# EAGLE library part KSZ8775CLXIC (library library)
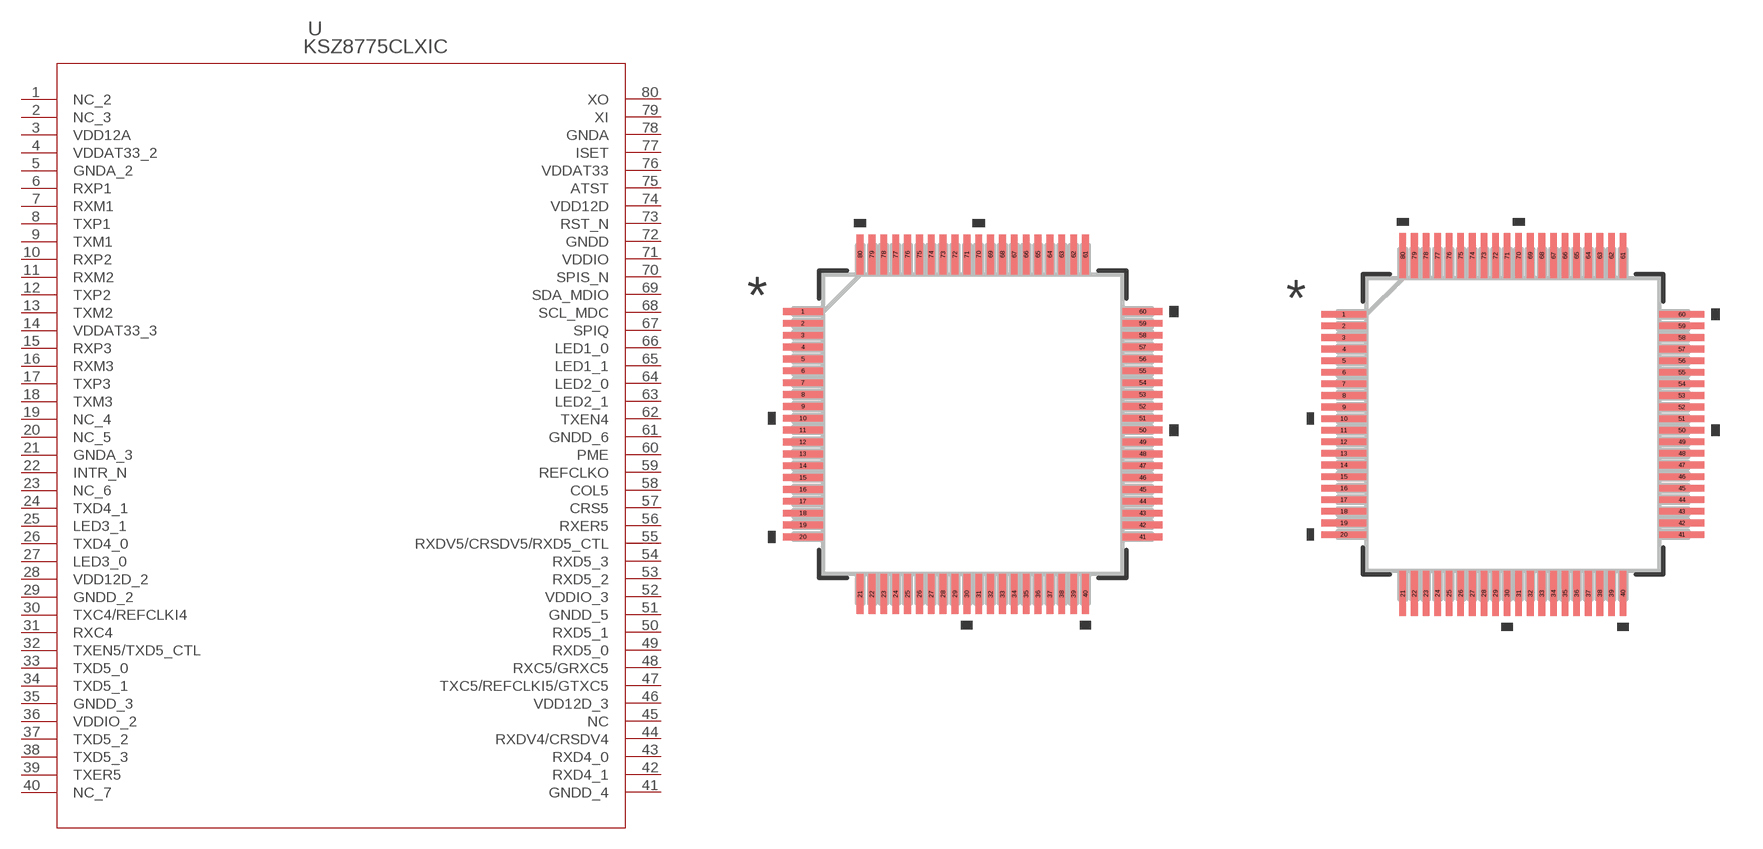
[diagram p0: symbol with the pads of LQFP10X10_80LD-PL-1_MCH; footprints LQFP10X10_80LD-PL-1_MCH, LQFP10X10_80LD-PL-1_MCH-M]

Designator prefix U

## KSZ8775CLXIC (BUILT_BY: EMA_Cory; COPYRIGHT: Copyright (C) 2018 Accelerated Designs. All rights reserved; DATASHEET: https://ww1.microchip.com/downloads/en/DeviceDoc/00002129C.pdf; MANUFACTURER_PART_NUMBER: KSZ8775CLXIC; SOURCELIBRARY: Add_to_database_2020-12-23; VENDOR: Microchip)  [LQFP10X10_80LD-PL-1_MCH]
1  NC_2  nc
2  NC_3  nc
3  VDD12A  pwr
4  VDDAT33_2  pwr
5  GNDA_2  pas
6  RXP1  in
7  RXM1  in
8  TXP1  out
9  TXM1  out
10  RXP2  in
11  RXM2  in
12  TXP2  out
13  TXM2  out
14  VDDAT33_3  pwr
15  RXP3  in
16  RXM3  in
17  TXP3  out
18  TXM3  out
19  NC_4  nc
20  NC_5  nc
21  GNDA_3  pas
22  INTR_N  out
23  NC_6  nc
24  TXD4_1  in
25  LED3_1
26  TXD4_0  in
27  LED3_0
28  VDD12D_2  pwr
29  GNDD_2  pas
30  TXC4/REFCLKI4
31  RXC4
32  TXEN5/TXD5_CTL  in
33  TXD5_0  in
34  TXD5_1  in
35  GNDD_3  pas
36  VDDIO_2  pwr
37  TXD5_2  in
38  TXD5_3  in
39  TXER5  in
40  NC_7  nc
41  GNDD_4  pas
42  RXD4_1
43  RXD4_0
44  RXDV4/CRSDV4
45  NC  nc
46  VDD12D_3  pwr
47  TXC5/REFCLKI5/GTXC5
48  RXC5/GRXC5
49  RXD5_0
50  RXD5_1
51  GNDD_5  pas
52  VDDIO_3  pwr
53  RXD5_2
54  RXD5_3
55  RXDV5/CRSDV5/RXD5_CTL
56  RXER5
57  CRS5
58  COL5
59  REFCLKO
60  PME
61  GNDD_6  pas
62  TXEN4  in
63  LED2_1
64  LED2_0
65  LED1_1
66  LED1_0
67  SPIQ
68  SCL_MDC  in
69  SDA_MDIO
70  SPIS_N  in
71  VDDIO  pwr
72  GNDD  pas
73  RST_N  in
74  VDD12D  pwr
75  ATST  nc
76  VDDAT33  pwr
77  ISET  pas
78  GNDA  pas
79  XI  in
80  XO  out

## KSZ8775CLXICLQFP10X10_80LD-PL-1_MCH-M (BUILT_BY: EMA_Cory; COPYRIGHT: Copyright (C) 2018 Accelerated Designs. All rights reserved; DATASHEET: https://ww1.microchip.com/downloads/en/DeviceDoc/00002129C.pdf; MANUFACTURER_PART_NUMBER: KSZ8775CLXIC; SOURCELIBRARY: Add_to_database_2020-12-23; VENDOR: Microchip)  [LQFP10X10_80LD-PL-1_MCH-M]
Pads as for LQFP10X10_80LD-PL-1_MCH

## KSZ8775CLXICLQFP10X10_80LD-PL-1_MCH-L (BUILT_BY: EMA_Cory; COPYRIGHT: Copyright (C) 2018 Accelerated Designs. All rights reserved; DATASHEET: https://ww1.microchip.com/downloads/en/DeviceDoc/00002129C.pdf; MANUFACTURER_PART_NUMBER: KSZ8775CLXIC; SOURCELIBRARY: Add_to_database_2020-12-23; VENDOR: Microchip)  [LQFP10X10_80LD-PL-1_MCH-L]
Pads as for LQFP10X10_80LD-PL-1_MCH

## Footprint LQFP10X10_80LD-PL-1_MCH (pad centres in mm)
smd 1.346 x 0.229: 1 -5.728,3.8; 2 -5.728,3.4; 3 -5.728,3; 4 -5.728,2.6; 5 -5.728,2.2; 6 -5.728,1.8; 7 -5.728,1.4; 8 -5.728,1; 9 -5.728,0.6; 10 -5.728,0.2; 11 -5.728,-0.2; 12 -5.728,-0.6; 13 -5.728,-1; 14 -5.728,-1.4; 15 -5.728,-1.8; 16 -5.728,-2.2; 17 -5.728,-2.6; 18 -5.728,-3; 19 -5.728,-3.4; 20 -5.728,-3.8; 41 5.728,-3.8; 42 5.728,-3.4; 43 5.728,-3; 44 5.728,-2.6; 45 5.728,-2.2; 46 5.728,-1.8; 47 5.728,-1.4; 48 5.728,-1; 49 5.728,-0.6; 50 5.728,-0.2; 51 5.728,0.2; 52 5.728,0.6; 53 5.728,1; 54 5.728,1.4; 55 5.728,1.8; 56 5.728,2.2; 57 5.728,2.6; 58 5.728,3; 59 5.728,3.4; 60 5.728,3.8
smd 0.229 x 1.346: 21 -3.8,-5.728; 22 -3.4,-5.728; 23 -3,-5.728; 24 -2.6,-5.728; 25 -2.2,-5.728; 26 -1.8,-5.728; 27 -1.4,-5.728; 28 -1,-5.728; 29 -0.6,-5.728; 30 -0.2,-5.728; 31 0.2,-5.728; 32 0.6,-5.728; 33 1,-5.728; 34 1.4,-5.728; 35 1.8,-5.728; 36 2.2,-5.728; 37 2.6,-5.728; 38 3,-5.728; 39 3.4,-5.728; 40 3.8,-5.728; 61 3.8,5.728; 62 3.4,5.728; 63 3,5.728; 64 2.6,5.728; 65 2.2,5.728; 66 1.8,5.728; 67 1.4,5.728; 68 1,5.728; 69 0.6,5.728; 70 0.2,5.728; 71 -0.2,5.728; 72 -0.6,5.728; 73 -1,5.728; 74 -1.4,5.728; 75 -1.8,5.728; 76 -2.2,5.728; 77 -2.6,5.728; 78 -3,5.728; 79 -3.4,5.728; 80 -3.8,5.728

## Footprint LQFP10X10_80LD-PL-1_MCH-M (pad centres in mm)
smd 1.549 x 0.229: 1 -5.829,3.8; 2 -5.829,3.4; 3 -5.829,3; 4 -5.829,2.6; 5 -5.829,2.2; 6 -5.829,1.8; 7 -5.829,1.4; 8 -5.829,1; 9 -5.829,0.6; 10 -5.829,0.2; 11 -5.829,-0.2; 12 -5.829,-0.6; 13 -5.829,-1; 14 -5.829,-1.4; 15 -5.829,-1.8; 16 -5.829,-2.2; 17 -5.829,-2.6; 18 -5.829,-3; 19 -5.829,-3.4; 20 -5.829,-3.8; 41 5.829,-3.8; 42 5.829,-3.4; 43 5.829,-3; 44 5.829,-2.6; 45 5.829,-2.2; 46 5.829,-1.8; 47 5.829,-1.4; 48 5.829,-1; 49 5.829,-0.6; 50 5.829,-0.2; 51 5.829,0.2; 52 5.829,0.6; 53 5.829,1; 54 5.829,1.4; 55 5.829,1.8; 56 5.829,2.2; 57 5.829,2.6; 58 5.829,3; 59 5.829,3.4; 60 5.829,3.8
smd 0.229 x 1.549: 21 -3.8,-5.829; 22 -3.4,-5.829; 23 -3,-5.829; 24 -2.6,-5.829; 25 -2.2,-5.829; 26 -1.8,-5.829; 27 -1.4,-5.829; 28 -1,-5.829; 29 -0.6,-5.829; 30 -0.2,-5.829; 31 0.2,-5.829; 32 0.6,-5.829; 33 1,-5.829; 34 1.4,-5.829; 35 1.8,-5.829; 36 2.2,-5.829; 37 2.6,-5.829; 38 3,-5.829; 39 3.4,-5.829; 40 3.8,-5.829; 61 3.8,5.829; 62 3.4,5.829; 63 3,5.829; 64 2.6,5.829; 65 2.2,5.829; 66 1.8,5.829; 67 1.4,5.829; 68 1,5.829; 69 0.6,5.829; 70 0.2,5.829; 71 -0.2,5.829; 72 -0.6,5.829; 73 -1,5.829; 74 -1.4,5.829; 75 -1.8,5.829; 76 -2.2,5.829; 77 -2.6,5.829; 78 -3,5.829; 79 -3.4,5.829; 80 -3.8,5.829

## Footprint LQFP10X10_80LD-PL-1_MCH-L (pad centres in mm)
smd 1.143 x 0.178: 1 -5.626,3.8; 2 -5.626,3.4; 3 -5.626,3; 4 -5.626,2.6; 5 -5.626,2.2; 6 -5.626,1.8; 7 -5.626,1.4; 8 -5.626,1; 9 -5.626,0.6; 10 -5.626,0.2; 11 -5.626,-0.2; 12 -5.626,-0.6; 13 -5.626,-1; 14 -5.626,-1.4; 15 -5.626,-1.8; 16 -5.626,-2.2; 17 -5.626,-2.6; 18 -5.626,-3; 19 -5.626,-3.4; 20 -5.626,-3.8; 41 5.626,-3.8; 42 5.626,-3.4; 43 5.626,-3; 44 5.626,-2.6; 45 5.626,-2.2; 46 5.626,-1.8; 47 5.626,-1.4; 48 5.626,-1; 49 5.626,-0.6; 50 5.626,-0.2; 51 5.626,0.2; 52 5.626,0.6; 53 5.626,1; 54 5.626,1.4; 55 5.626,1.8; 56 5.626,2.2; 57 5.626,2.6; 58 5.626,3; 59 5.626,3.4; 60 5.626,3.8
smd 0.178 x 1.143: 21 -3.8,-5.626; 22 -3.4,-5.626; 23 -3,-5.626; 24 -2.6,-5.626; 25 -2.2,-5.626; 26 -1.8,-5.626; 27 -1.4,-5.626; 28 -1,-5.626; 29 -0.6,-5.626; 30 -0.2,-5.626; 31 0.2,-5.626; 32 0.6,-5.626; 33 1,-5.626; 34 1.4,-5.626; 35 1.8,-5.626; 36 2.2,-5.626; 37 2.6,-5.626; 38 3,-5.626; 39 3.4,-5.626; 40 3.8,-5.626; 61 3.8,5.626; 62 3.4,5.626; 63 3,5.626; 64 2.6,5.626; 65 2.2,5.626; 66 1.8,5.626; 67 1.4,5.626; 68 1,5.626; 69 0.6,5.626; 70 0.2,5.626; 71 -0.2,5.626; 72 -0.6,5.626; 73 -1,5.626; 74 -1.4,5.626; 75 -1.8,5.626; 76 -2.2,5.626; 77 -2.6,5.626; 78 -3,5.626; 79 -3.4,5.626; 80 -3.8,5.626